# Altium schematic symbol library DMT15H017LPS.SchLib: 1 symbol
Pins are listed as number, name and electrical type; pins without a type are passive.

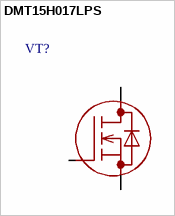
[diagram p0: symbol DMT15H017LPS]

## DMT15H017LPS
designator VT?
footprint DMT15H017LPS
footprint DMT15H017LPS_SWP
footprint DMT15H017LPS_NO_SWP
pins: 1 G, 2 D, 3 S